# Altium schematic symbol library RT0402BRD071KL.SchLib: 1 symbol
Pins are listed as number, name and electrical type; pins without a type are passive.

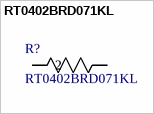
[diagram p0: symbol RT0402BRD071KL]

## RT0402BRD071KL
designator R?
Description; Manufacturer_Name: Yageo; Copyright: Copyright (C) 2025 Ultra Librarian. All rights reserved.; Manufacturer_Part_Number: RT0402BRD071KL
footprint RC0402N_YAG
pins: 1, 2